# Altium integrated library PADS.IntLib: 8 symbols
Pins are listed as number, name and electrical type; pins without a type are passive.

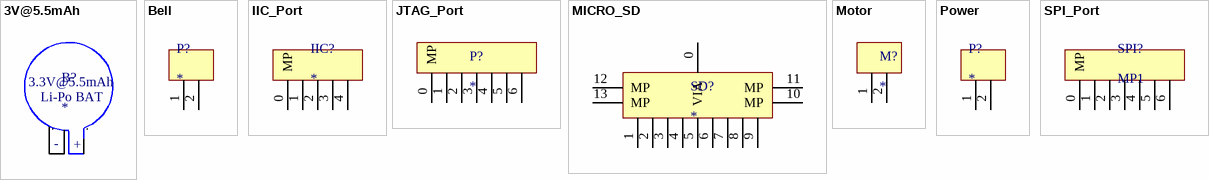
[diagram p0: symbols 3V@5.5mAh to SPI_Port]

## 3V@5.5mAh
designator B?
Battery
footprint 3V@2.3mAh
pins: 1 . (power), 2 . (power)
text: 3.3V@5.5mAh; Li-Po BAT; -; +

## Bell
designator P?
None
footprint PADS_2
pins: 1, 2

## IIC_Port
designator IIC?
None
footprint GX1.25_4p
pins: 0 MP, 1, 2, 3, 4

## JTAG_Port
designator P?
None
footprint GX1.25_6p
pins: 0 MP, 1, 2, 3, 4, 5, 6

## MICRO_SD
designator SD?
None
footprint MICRO_SD
pins: 0 VIA, 1, 2, 3, 4, 5, 6, 7, 8, 9, 10 MP, 11 MP, 12 MP, 13 MP

## Motor
designator M?
None
footprint fxc-110725
pins: 1, 2

## Power
designator P?
None
footprint PADS_2
pins: 1, 2

## SPI_Port
designator SPI?, comment MP1
None
footprint GX1.25_6p
pins: 0 MP, 1, 2, 3, 4, 5, 6